# Altium footprint library PcbLibIOtherE.PcbLib: 16 footprints
Each footprint in its own frame and in the unit in brackets; x right, y up, seen from the top. Pads: shape width x height; smd on the part's side, far side on the other; paste and mask are expansions set on the pad; w line width, h text height; cw(c..) or ccw(c..) is an arc to the next point about the centre after c.
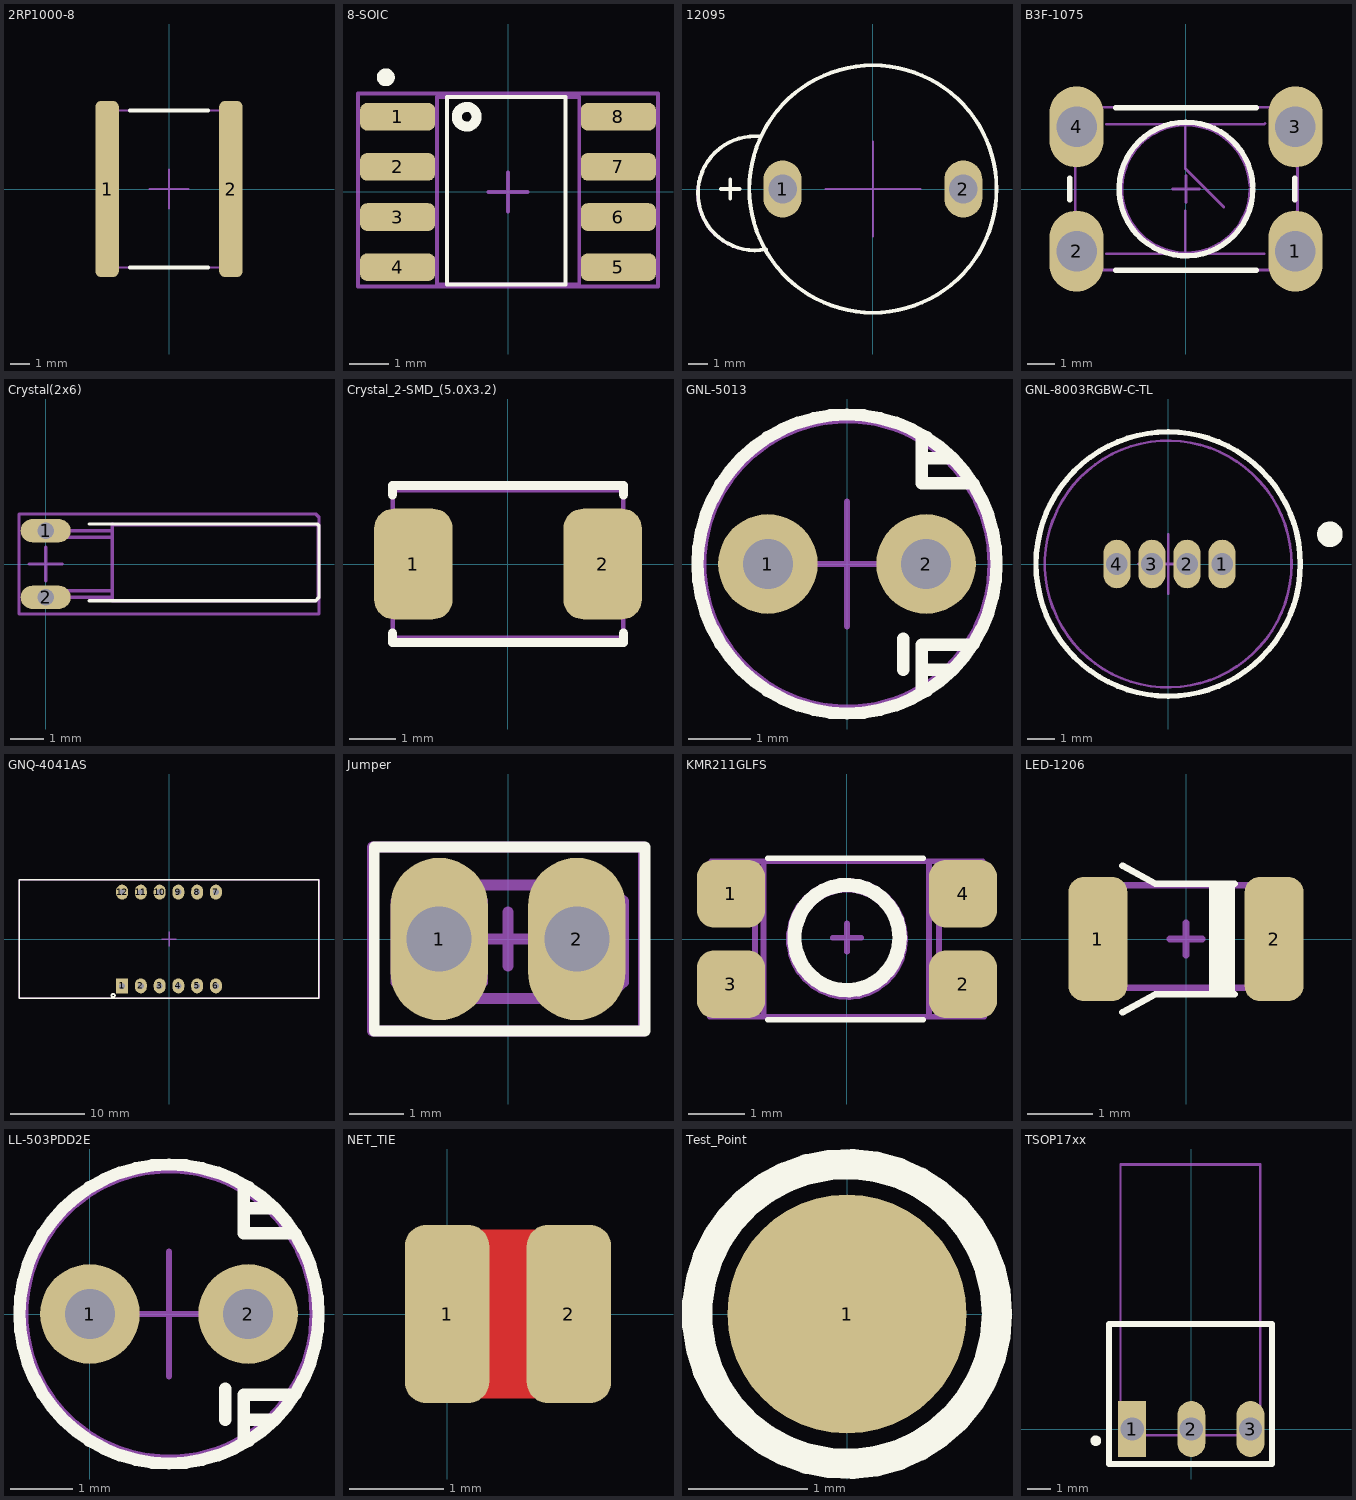
[diagram p0: the footprints below, top view; thin cyan lines are the x and y axes]

## 2RP1000-8 [mm]
pads (2):
  rrect50% 1.2x9 smd: 1(-3.162,0) 2(3.162,0)
Top Overlay:
  lines w0.2: -2,-4 2,-4 ; -2,4 2,4
TopAssy:
  lines w0.1: -3,-4 -3,4 3,4 3,-4 -3,-4
Inside:
  lines w0.1: -1,0 1,0 ; 0,-1 0,1 ; -3,-4 -3,4 3,4 3,-4 -3,-4
3D body "2RP1000-8.STEP": height 8, standoff 0, extent -3.007,-3.95 3.062,4.05

## 8-SOIC [mm]
pads (8):
  rrect50% 1.9x0.7 smd: 1(-2.795,1.905) 2(-2.795,0.635) 3(-2.795,-0.635) 4(-2.795,-1.905) 5(2.795,-1.905) 6(2.795,-0.635) 7(2.795,0.635) 8(2.795,1.905)
Top Overlay:
  circle w0.254: c-3.095,2.905 r0.1
  circle w0.254: c-1.045,1.905 r0.25
  lines w0.1: -1.545,-2.345 1.455,-2.345 1.455,2.405 -1.545,2.405 -1.545,2.155 -1.545,-2.345
TopAssy:
  lines w0.1: -1.795,-1.995 -3.395,-1.995 -3.395,-1.695 -1.795,-1.695 ; -1.795,-0.795 -3.395,-0.795 -3.395,-0.495 -1.795,-0.495 ; -1.795,0.505 -3.395,0.505 -3.395,0.805 -1.795,0.805 ; -1.795,1.805 -3.395,1.805 -3.395,2.105 -1.795,2.105 ; 1.805,-1.995 3.405,-1.995 3.405,-1.695 1.805,-1.695 ; 1.805,-0.795 3.405,-0.795 3.405,-0.495 1.805,-0.495 ; 1.805,0.505 3.405,0.505 3.405,0.805 1.805,0.805 ; 1.805,1.805 3.405,1.805 3.405,2.105 1.805,2.105 ; -1.795,-2.345 1.805,-2.345 1.805,2.405 -1.795,2.405 -1.795,-2.345
Inside:
  lines w0.1: -0.5,0 0.5,0 ; 0,-0.5 0,0.5
Size:
  lines w0.1: -3.8,-2.4 3.8,-2.4 3.8,2.5 -3.8,2.5 -3.8,-2.4
3D body "User Library-so8-3.step": height 1.7, standoff 0, extent -3.02,-2.395 2.98,2.505

## 12095 [mm] "12*9,5"
pads (2):
  oval 2x3 hole 1.5: 1(-4.75,0) 2(4.75,0)
Top Overlay:
  circle w0.2: c0,0 r6.5
  lines w0.2: -8,0 -7,0 ; -7.5,-0.5 -7.5,0.5 ; -5.871,2.757 ccw(c-6.2,-0.225) -5.631,-3.171
TopAssy:
  circle w0.1: c0,0 r6.519
  lines w0.1: -5.978,2.738 ccw(c-6.25,-0.25) -5.794,-3.215
Inside:
  circle w0.1: c0,0 r6.519
  lines w0.1: -2.5,0 2.5,0 ; 0,-2.5 0,2.5
3D body "Zummer.STEP": height 8.5, standoff -3.5, extent -9,-5.949 6,6.05

## B3F-1075 [mm] "6x6x9.5"
height 9.5
pads (4):
  oval 2x3 hole 1.5: 1(4.05,-2.3) 2(-4.05,-2.3) 3(4.05,2.3) 4(-4.05,2.3)
Top Overlay:
  lines w0.2: -4.3,-0.4 -4.3,0.4 ; -2.6,-3 2.6,-3 ; -2.6,3 2.6,3 ; 2.472,0.099 ccw(c0,0) 2.474,0 ; 4.025,-0.4 4.025,0.4
TopAssy:
  lines w0.1: -2.95,-2.4 2.9,-2.4 ; -2.95,2.4 2.9,2.4 2.925,2.425 ; -0.025,-2.4 -0.025,-0.8 ; -0.025,2.4 -0.025,0.8 -0.025,0.75 1.4,-0.675 ; 2.36,0.12 ccw(c0,0) 2.364,0
Inside:
  lines w0.1: -0.5,0 0.5,0 ; 0,-0.5 0,0.5 ; -4.1,-2.975 -4.075,-3 4.025,-3 4.125,-2.9 4.125,3.025 -3.875,3.025 -4.1,2.8 -4.1,2.325 -4.1,-2.975
3D body "Tactal Switch -Thru (6mmx 6mmx10.0mm).stp": height 11, standoff -2.18, extent -4.326,-2.997 4.026,2.997

## Crystal(2x6) [mm] "Crystal(2x6)"
height 7
pads (2):
  oval 1.5x0.7 hole 0.5: 1(0,1) 2(0,-1)
Top Overlay:
  lines w0.1: 1.3,-1.1 8.1,-1.1 8.2,-1 8.2,1.15 8.15,1.2 1.3,1.2
TopAssy:
  lines w0.1: 2,-1 -0.1,-1 -0.1,-0.8 2,-0.8 ; 2,0.8 -0.1,0.8 -0.1,1 2,1 2,1.2 ; 2,1.2 2.025,1.175 8.175,1.175 8.175,-1.025 8.1,-1.1 2,-1.1 2,1.2
Inside:
  lines w0.1: -0.5,0 0.5,0 ; 0,-0.5 0,0.5 ; -0.8,-1.5 8.2,-1.5 8.2,1.4 8.1,1.5 -0.8,1.5 -0.8,-1.5
3D body "User Library-KX-26.step": height 2.2, standoff -1.75, extent -0.15,-1.15 8.2,1.15

## Crystal_2-SMD_(5.0X3.2) [mm] "Crystal (5.00mm x 3.20mm)"
pads (2):
  rrect50% 1.7x2.4 smd: 1(-2.05,0) 2(2.05,0)
Top Overlay:
  lines w0.2: -2.5,-1.5 -2.5,-1.7 2.5,-1.7 2.5,-1.5 ; -2.5,1.5 -2.5,1.7 2.5,1.7 2.5,1.5
TopAssy:
  lines w0.1: -2.5,-1.6 -2.5,1.6 2.5,1.6 2.5,-1.6 -2.5,-1.6
3D body "ABM3.STEP": height 1.3, standoff 0, extent -2.5,-1.6 2.5,1.6

## GNL-5013 [mm] "5.9mmx5.9mmx10mm 2.54mm"
height 10
pads (2):
  round 1.6 hole 0.8: 1(-1.27,0) 2(1.27,0)
Top Overlay:
  circle w0.2: c0,0 r2.4
  lines w0.2: 0.9,-1.7 0.9,-1.2 ; 1.2,-2 1.2,-1.3 2,-1.3 ; 1.2,-1.7 1.7,-1.7 ; 1.2,1.7 1.7,1.7 ; 1.2,2 1.2,1.3 2,1.3
TopAssy:
  circle w0.1: c0,0 r2.408
Inside:
  circle w0.1: c0,0 r2.309
  lines w0.1: -1,0 1,0 ; 0,-1 0,1
3D body "CircuitWorks-REDLED.STEP": height 6.38, standoff -2.17, extent -1.994,-1.498 1.994,1.994

## GNL-8003RGBW-C-TL [mm] "9.15mm x 11mm x 30mm"
height 30
pads (4):
  oval 1x1.8 hole 0.8: 1(2,0) 2(0.7,0) 3(-0.6,0) 4(-1.9,0)
Top Overlay:
  circle w0.5: c6,1.1 r0.224
  circle w0.2: c0,0 r4.901
TopAssy:
  circle w0.1: c0.7,0 r0.4
  circle w0.1: c2,0 r0.4
  circle w0.1: c-0.6,0 r0.4
  circle w0.1: c-1.9,0 r0.4
  circle w0.1: c0,0 r4.575
Inside:
  circle w0.1: c0,0 r4.575
  lines w0.1: -1.1,0 0,0 ; 0,-1.1 0,0 ; 0,1.1 0,0 ; 1.1,0 0,0
3D body "GNL-8003RGBW-C-TL.STEP": height 13, standoff -7, extent -4.575,-4.575 3.95,4.575

## GNQ-4041AS [mm] "40.6õ16"
pads (12):
  rect 1.6x2 hole 0.8: 1(-6.35,-6.35)
  oval 1.6x2 hole 0.8: 2(-3.81,-6.35) 3(-1.27,-6.35) 4(1.27,-6.35) 5(3.81,-6.35) 6(6.35,-6.35) 7(6.35,6.35) 8(3.81,6.35) 9(1.27,6.35) 10(-1.27,6.35) 11(-3.81,6.35) 12(-6.35,6.35)
Top Overlay:
  circle w0.254: c-7.55,-7.65 r0.224
  lines w0.2: -20.3,8 -20.3,8 ; -20.3,8 20.3,8 20.3,-8 -20.3,-8 -20.3,8
TopAssy:
  lines w0.2: -20.3,-8 20.3,-8 20.3,8 -20.3,8 -20.3,-8
Inside:
  lines w0.2: -1,0 1,0 ; 0,-1 0,1 ; -20.3,-8 20.3,-8 20.3,8 -20.3,8 ; -20.3,-8 -20.3,-8 ; -20.3,-8 -20.3,8 ; -20.3,8 -20.3,8
3D body "GNQ-4041AS.STEP": height 7.5, standoff -3, extent -20.3,-8 20.3,8

## Jumper [mm]
pads (2):
  oval 1.8x3 hole 1.2: 1(-1.27,0) 2(1.27,0)
Top Overlay:
  lines w0.2: -2.47,-1.7 2.53,-1.7 2.53,1.7 -2.47,1.7 -2.47,-1.7
TopAssy:
  lines w0.2: -0.77,-1.1 0.83,-1.1 ; -0.77,-1.1 -1.77,-1.1 -2.07,-0.8 -2.07,0.7 -1.77,1 -0.77,1 ; -0.77,-1.1 -0.47,-0.8 -0.47,0.7 -0.77,1 ; -0.77,1 0.83,1 ; 0.83,-1.1 1.83,-1.1 2.13,-0.8 2.13,0.7 1.83,1 0.83,1 ; 0.83,-1.1 0.53,-0.8 0.53,0.7 0.83,1
Inside:
  lines w0.2: -0.5,0 0.5,0 ; 0,-0.5 0,0.5 ; -2.5,-1.7 -2.5,1.7 2.5,1.7 2.5,-1.7 -2.5,-1.7
3D body "User Library-Jumper SL2.STEP": height 9.5, standoff -2.6, extent -2.47,-1.17 2.53,1.37

## KMR211GLFS [mm] "4.2x2.8x1.9mm"
height 1.9
pads (4):
  rrect50% 1.2x1.2 smd: 1(-2.05,0.8) 2(2.05,-0.8) 3(-2.05,-0.8) 4(2.05,0.8)
Top Overlay:
  circle w0.254: c0,0.025 r0.931
  lines w0.1: -1.4,-1.425 1.35,-1.425 ; -1.4,1.425 1.35,1.425
TopAssy:
  circle w0.254: c0,0 r0.95
  lines w0.1: -1.65,-0.375 -2.425,-0.375 -2.425,-1.375 -1.475,-1.375 ; -1.625,-0.375 -1.625,0.375 -2.4,0.375 -2.4,1.375 -1.45,1.375 ; 1.625,-0.375 1.625,0.375 2.4,0.375 2.4,1.375 1.45,1.375 ; 1.65,-0.375 2.425,-0.375 2.425,-1.375 1.475,-1.375 ; -1.475,-1.375 -1.475,1.375 -1.45,1.375 ; -1.475,-1.375 1.475,-1.375 ; -1.45,1.375 1.45,1.375 ; 1.45,1.375 1.45,-1.375 1.475,-1.375
Inside:
  lines w0.1: -0.25,0.025 0.25,0.025 ; 0,-0.225 0,0.275
3D body "KMR211GLFS.STEP": height 1.9, standoff 0, extent -2.5,-1.375 2.5,1.425

## LED-1206 [mm]
pads (2):
  rrect50% 0.9x1.9 smd: 1(-1.35,0) 2(1.35,0)
Top Overlay:
  rectangle: 0.4,-0.85 0.75,0.85
  lines w0.1: -0.975,-1.125 -0.475,-0.85 0.75,-0.85 ; -0.975,1.125 -0.475,0.85 0.75,0.85 ; 0.4,-0.85 0.4,0.85
TopAssy:
  lines w0.1: -1.575,-0.75 -1.575,0.825 -1.3,0.825 1.55,0.825 1.55,-0.75 -1.575,-0.75
Inside:
  lines w0.1: -0.25,0 0.25,0 ; 0,-0.25 0,0.25
3D body "Surface Mount Chip LED 3.2x1.6mm.stp": height 1.1, standoff -0.01, extent -1.625,-0.775 1.575,0.825

## LL-503PDD2E [mm] "5.9mmx5.9mmx10mm 2.54mm"
height 10
pads (2):
  round 1.6 hole 0.8: 1(0,0) 2(2.54,0)
Top Overlay:
  circle w0.2: c1.27,0 r2.4
  lines w0.2: 2.17,-1.7 2.17,-1.2 ; 2.47,-2 2.47,-1.3 3.27,-1.3 ; 2.47,-1.7 2.97,-1.7 ; 2.47,1.7 2.97,1.7 ; 2.47,2 2.47,1.3 3.27,1.3
TopAssy:
  circle w0.1: c1.27,0 r2.408
Inside:
  circle w0.1: c1.27,0 r2.309
  lines w0.1: 0.27,0 2.27,0 ; 1.27,-1 1.27,1
3D body "User Library-led 3mm black.STEP": height 5.98, standoff -1.5, extent -0.394,-1.653 2.82,1.644

## NET_TIE [mm]
pads (2):
  rrect50% 0.9x1.9 smd: 1(0,0) 2(1.3,0)
Top Layer:
  region: -0.3,0.9 1.6,0.9 1.6,-0.9 -0.3,-0.9
TopAssy:
  region: -0.3,0.9

## Test_Point [mm]
pads (1):
  round 2 smd: 1(0,0)
Top Overlay:
  circle w0.254: c0,0 r1.254

## TSOP17xx [mm] "2.54mm pitch"
height 5
pads (3):
  rect 1.2x2.4 hole 1: 1(-2.54,0)
  oval 1.2x2.4 hole 1: 2(0,0) 3(2.54,0)
Top Overlay:
  circle w0.254: c-4.1,-0.5 r0.1
  lines w0.254: -3.54,-1.5 -3.54,0 -3.54,4.5 3.46,4.5 3.46,0 3.46,-1.5 -3.54,-1.5
TopAssy:
  lines w0.1: -3.04,-0.262 -3.04,11.375 2.96,11.375 2.96,-0.262 -3.04,-0.262
Inside:
  lines w0.1: -0.5,0 0,0 ; 0,-0.5 0,0 ; 0,0.5 0,0 ; 0.5,0 0,0 ; -3.04,-0.262 -3.04,11.375 -3,11.335 2.96,11.335 2.96,-0.262 -3.04,-0.262
3D body "TSOP17xxx.STEP": height 6.22, standoff -3.4, extent -3.04,-0.262 2.96,11.375